# Altium footprint library picphlipvfdnew.PcbLib: 21 footprints (part 2 of 2)
Each footprint in its own frame and in the unit in brackets; x right, y up, seen from the top. Pads: shape width x height; smd on the part's side, far side on the other; paste and mask are expansions set on the pad; w line width, h text height; cw(c..) or ccw(c..) is an arc to the next point about the centre after c.
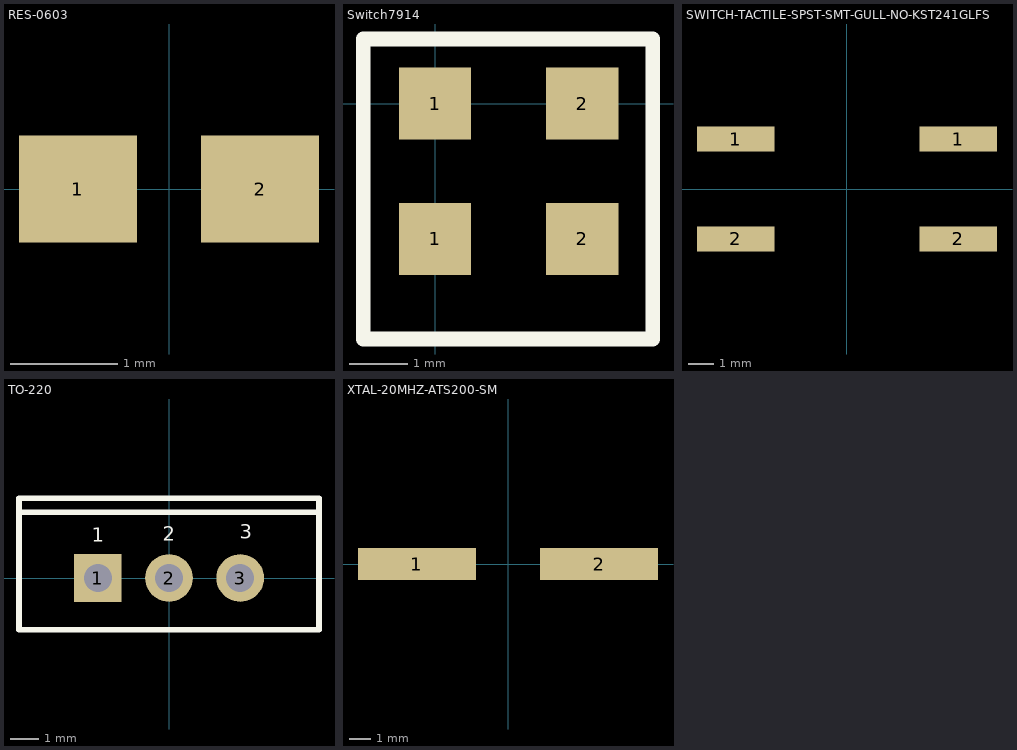
[diagram p1: the footprints below, top view; thin cyan lines are the x and y axes]

## RES-0603 [mm]
pads (2):
  rect 1.1x1 smd: 1(-0.85,0) 2(0.85,0)
3D body: height 0.53, standoff 0.02, extent -0.8,-0.415 0.8,0.445

## Switch7914 [mil]
pads (4):
  rect 49x49 smd: 1(0,-92) 1(0,0) 2(100,-92) 2(100,0)
Top Overlay:
  lines w10: -49,-160 148,-160 148,44 -49,44 -49,-160

## SWITCH-TACTILE-SPST-SMT-GULL-NO-KST241GLFS [mm]
pads (4):
  rect 3.1x1 smd: 1(-4.45,2) 1(4.45,2) 2(-4.45,-2) 2(4.45,-2)
3D body: height 5.2, standoff 0, extent -3.175,-3.175 3.175,3.175

## TO-220 [mm]
pads (3):
  rect 1.7x1.7 hole 1: 1(-2.54,0)
  round 1.7 hole 1: 2(0,0) 3(2.54,0)
Top Overlay:
  lines w0.2: -5.35,2.35 5.35,2.35 ; -5.35,-1.85 5.35,-1.85 5.35,2.85 -5.35,2.85 -5.35,-1.85
  text "3" at 2.515,1.408 h0.51
  text "2" at -0.225,1.335 h0.51
  text "1" at -2.76,1.291 h0.51
3D body: height 19.1, standoff -9.75, extent -5.08,-1.79 5.08,3.01

## XTAL-20MHZ-ATS200-SM [mil]
pads (2):
  rect 217x59 smd: 1(-167.5,0) 2(167.5,0)
3D body: height 200.79, standoff 0, extent -295.27,-88.58 295.28,88.59